# Altium schematic symbol library Resistor.SchLib: 5 symbols
Pins are listed as number, name and electrical type; pins without a type are passive.

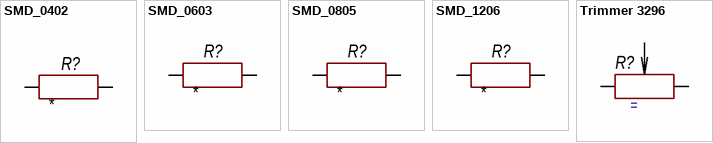
[diagram p0: symbols SMD_0402 to Trimmer 3296]

## SMD_0402
designator R?
Model: *; Manufcacture: *; HelpURL: *; Case: *; Value: *
footprint R0402
pins: 1, 2

## SMD_0603
designator R?
Model: *; Manufcacture: *; HelpURL: *; Case: *; Value: *
footprint R0603
pins: 1, 2

## SMD_0805
designator R?
Model: *; Manufcacture: *; HelpURL: *; Case: *; Value: *
footprint R0805
pins: 1, 2

## SMD_1206
designator R?
Model: *; Manufcacture: *; HelpURL: *; Case: *; Value: *
footprint R1206
pins: 1, 2

## Trimmer 3296
designator R?
footprint Trimmer 3296
pins: 1, 2, 3